# EAGLE library part P-16- (library con-headers-jp)
HEADER PLUG PINS
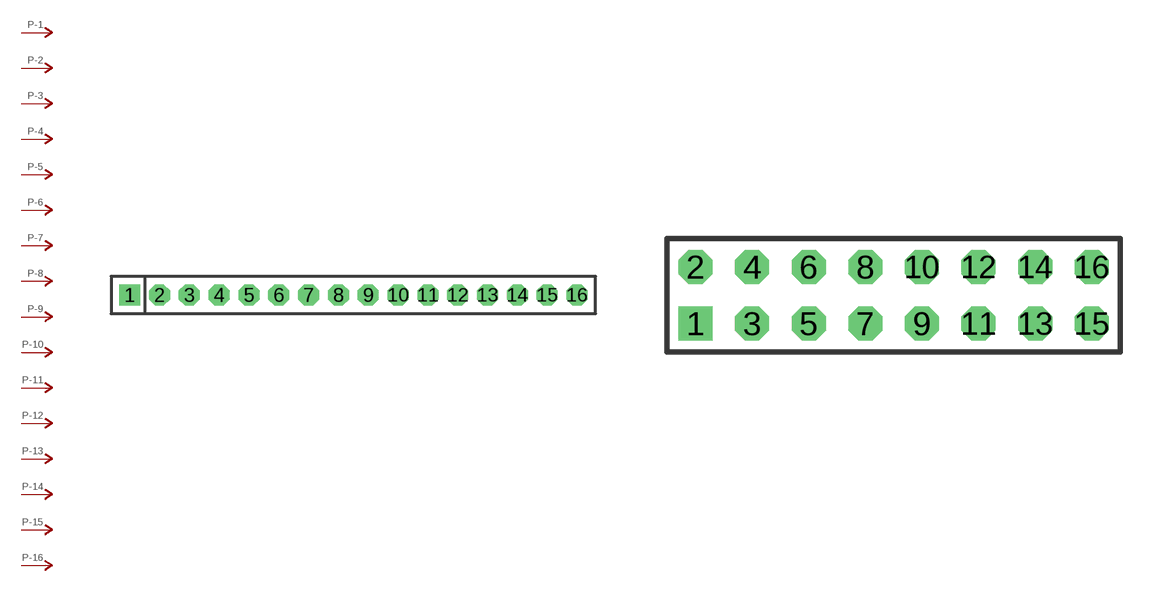
[diagram p15: symbol with the pads of SIP-100-16; footprints SIP-100-16, HDR-100-2X08]

Designator prefix P; gates -1=P-N -2=P-N -3=P-N -4=P-N -5=P-N -6=P-N -7=P-N -8=P-N -9=P-N -10=P-N -11=P-N -12=P-N -13=P-N -14=P-N -15=P-N -16=P-N

## P-16-SIP-100  [SIP-100-16]
1  -1:P  pas
2  -2:P  pas
3  -3:P  pas
4  -4:P  pas
5  -5:P  pas
6  -6:P  pas
7  -7:P  pas
8  -8:P  pas
9  -9:P  pas
10  -10:P  pas
11  -11:P  pas
12  -12:P  pas
13  -13:P  pas
14  -14:P  pas
15  -15:P  pas
16  -16:P  pas

## P-16-100-2X08  [HDR-100-2X08]
Pads as for SIP-100-16

## P-16-100-2X08_M  [HDR-100-2X08_M]
Pads as for SIP-100-16

## P-16-2MM-2X08  [HDR-2MM-2X08]
Pads as for SIP-100-16

## P-16-2MM-2X08_M  [HDR-2MM-2X08_M]
Pads as for SIP-100-16

## Footprint SIP-100-16 (pad centres in mm)
SIP Header - 0.1"
drill 0.914 pad 1.778 square: 1 -19.05,0
drill 0.914 pad 1.778 octagon: 2 -16.51,0; 3 -13.97,0; 4 -11.43,0; 5 -8.89,0; 6 -6.35,0; 7 -3.81,0; 8 -1.27,0; 9 1.27,0; 10 3.81,0; 11 6.35,0; 12 8.89,0; 13 11.43,0; 14 13.97,0; 15 16.51,0; 16 19.05,0

## Footprint HDR-100-2X08 (pad centres in mm)
PIN HEADER - 0.1"
drill 1.016 square: 1 -8.89,-1.27
drill 1.016 octagon: 2 -8.89,1.27; 3 -6.35,-1.27; 4 -6.35,1.27; 5 -3.81,-1.27; 6 -3.81,1.27; 7 -1.27,-1.27; 8 -1.27,1.27; 9 1.27,-1.27; 10 1.27,1.27; 11 3.81,-1.27; 12 3.81,1.27; 13 6.35,-1.27; 14 6.35,1.27; 15 8.89,-1.27; 16 8.89,1.27

## Footprint HDR-100-2X08_M (pad centres in mm)
PIN HEADER - 0.1" - MIRRORED
drill 1.016 square: 1 -8.89,1.27
drill 1.016 octagon: 2 -8.89,-1.27; 3 -6.35,1.27; 4 -6.35,-1.27; 5 -3.81,1.27; 6 -3.81,-1.27; 7 -1.27,1.27; 8 -1.27,-1.27; 9 1.27,1.27; 10 1.27,-1.27; 11 3.81,1.27; 12 3.81,-1.27; 13 6.35,1.27; 14 6.35,-1.27; 15 8.89,1.27; 16 8.89,-1.27

## Footprint HDR-2MM-2X08 (pad centres in mm)
PIN HEADER - 2MM"
drill 0.914 square: 1 -7,-1
drill 0.914 round: 2 -7,1; 3 -5,-1; 4 -5,1; 5 -3,-1; 6 -3,1; 7 -1,-1; 8 -1,1; 9 1,-1; 10 1,1; 11 3,-1; 12 3,1; 13 5,-1; 14 5,1; 15 7,-1; 16 7,1

## Footprint HDR-2MM-2X08_M (pad centres in mm)
PIN HEADER - 2MM - MIRRORED
drill 0.914 square: 1 -7,1
drill 0.914 round: 2 -7,-1; 3 -5,1; 4 -5,-1; 5 -3,1; 6 -3,-1; 7 -1,1; 8 -1,-1; 9 1,1; 10 1,-1; 11 3,1; 12 3,-1; 13 5,1; 14 5,-1; 15 7,1; 16 7,-1